# EAGLE library part HEAD_2X3 (library mechanical)
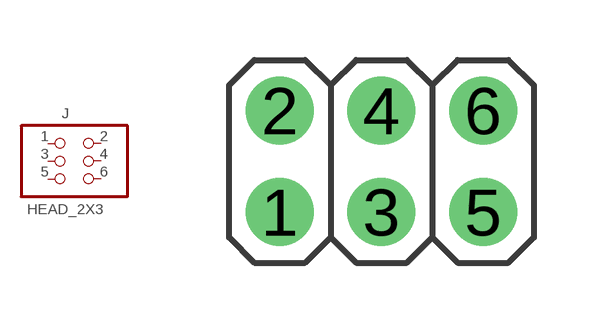
[diagram p2: symbol with the pads of HEAD_MALE_2X3; footprint HEAD_MALE_2X3]

Designator prefix J

## HEAD_2X3_MALE  [HEAD_MALE_2X3]
1  1  pas
2  2  pas
3  3  pas
4  4  pas
5  5  pas
6  6  pas

## Footprint HEAD_MALE_2X3 (pad centres in mm)
PIN HEADER
drill 1 pad 1.7: 1 -2.54,-1.27; 2 -2.54,1.27; 3 0,-1.27; 4 0,1.27; 5 2.54,-1.27; 6 2.54,1.27